# Altium footprint library SW-SMD-5G-1LED.PcbLib: 1 footprints
Each footprint in its own frame and in the unit in brackets; x right, y up, seen from the top. Pads: shape width x height; smd on the part's side, far side on the other; paste and mask are expansions set on the pad; w line width, h text height; cw(c..) or ccw(c..) is an arc to the next point about the centre after c.
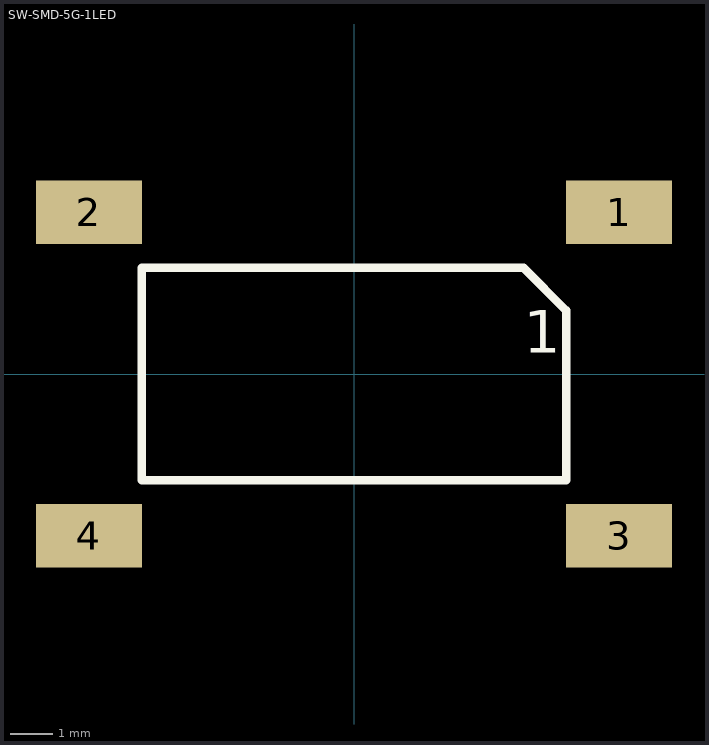
[diagram p0: the footprint, top view; thin cyan lines are the x and y axes]

## SW-SMD-5G-1LED [mm]
pads (4):
  rect 2.5x1.5 smd: 1(6.25,3.81) 2(-6.25,3.81) 3(6.25,-3.81) 4(-6.25,-3.81)
Top Overlay:
  lines w0.2: -5,-2.5 -5,2.5 4,2.5 5,1.5 5,-2.5 -5,-2.5
  text "1" at 4,0.5 h1